# Altium footprint library Toko.PcbLib: 1 footprints
Each footprint in its own frame and in the unit in brackets; x right, y up, seen from the top. Pads: shape width x height; smd on the part's side, far side on the other; paste and mask are expansions set on the pad; w line width, h text height; cw(c..) or ccw(c..) is an arc to the next point about the centre after c.
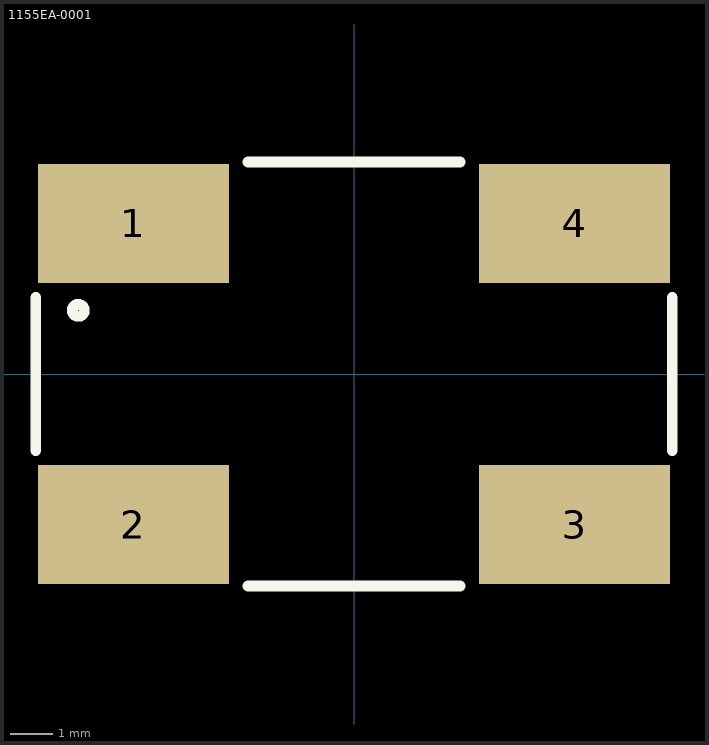
[diagram p0: the footprint, top view; thin cyan lines are the x and y axes]

## 1155EA-0001 [mm] "Fixed Inductors for automotive digital amplifier"
height 10.5
pads (4):
  rect 4.5x2.8 smd: 1(-5.2,3.55) 2(-5.2,-3.55) 3(5.2,-3.55) 4(5.2,3.55)
Top Overlay:
  circle w0.254: c-6.5,1.5 r0.141
  lines w0.254: -7.5,-1.8 -7.5,1.8 ; -2.5,-5 2.5,-5 ; -2.5,5 2.5,5 ; 7.5,-1.8 7.5,1.8
3D body: height 10.5, standoff 0.1, extent -7.15,-6.65 7.15,6.65